# Altium schematic symbol library LED_Readout_7mm_4digit.SchLib: 1 symbol
Pins are listed as number, name and electrical type; pins without a type are passive.

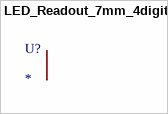
[diagram p0: symbol LED_Readout_7mm_4digit]

## LED_Readout_7mm_4digit
designator U?
4 digit LED readout, 7mm height